# Altium footprint library PcbLib1.PcbLib: 2 footprints
Each footprint in its own frame and in the unit in brackets; x right, y up, seen from the top. Pads: shape width x height; smd on the part's side, far side on the other; paste and mask are expansions set on the pad; w line width, h text height; cw(c..) or ccw(c..) is an arc to the next point about the centre after c.
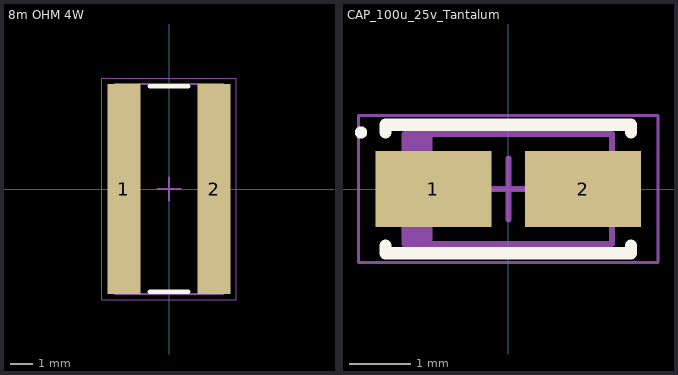
[diagram p0: the footprints below, top view; thin cyan lines are the x and y axes]

## 8m OHM 4W [mm] "Chip Resistor, 2-Leads, Body 4,50x8,95mm, IPC Medium Density"
height 0.7
pads (2):
  rect 1.45x9.2 smd: 1(-1.975,0) 2(1.975,0)
Top Overlay:
  lines w0.2: -0.85,-4.5 0.85,-4.5 ; -0.85,4.5 0.85,4.5
Mechanical 13:
  lines w0.1: -2.35,-4.6 -2.35,4.6 2.35,4.6 2.35,-4.6 -2.35,-4.6
Mechanical 15:
  lines w0.05: -2.95,-4.85 -2.95,4.85 2.95,4.85 2.95,-4.85 -2.95,-4.85
  lines w0.1: -0.5,0 0.5,0 ; 0,-0.5 0,0.5
3D body "8m OHM 4W.step": height 0.7, standoff 0, extent -2.35,-4.6 2.35,4.6

## CAP_100u_25v_Tantalum [mm] "Molded Capacitor, 2-Leads, Body 3,20x1,60mm, IPC Medium Density"
height 1.8
pads (2):
  rect 1.9x1.25 smd: 1(-1.225,0) 2(1.225,0)
Top Overlay:
  circle w0.1: c-2.41,0.925 r0.05
  lines w0.2: -2.01,-0.925 -2.01,-1.05 2.01,-1.05 2.01,-0.925 ; -2.01,0.925 -2.01,1.05 2.01,1.05 2.01,0.925
Mechanical 13:
  rectangle: -1.7,-0.9 -1.243,0.9
  lines w0.1: -1.7,-0.9 -1.7,0.9 1.7,0.9 1.7,-0.9 -1.7,-0.9
Mechanical 15:
  lines w0.05: -2.45,-1.2 -2.45,1.2 2.45,1.2 2.45,-1.2 -2.45,-1.2
  lines w0.1: -0.5,0 0.5,0 ; 0,-0.5 0,0.5
3D body "CAP_100u_25v_Tantalum.step": height 1.8, standoff 0, extent -1.92,-0.9 1.92,0.9